# Altium schematic symbol library R_1206.SchLib: 1 symbol
Pins are listed as number, name and electrical type; pins without a type are passive.

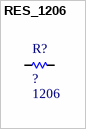
[diagram p0: symbol RES_1206]

## RES_1206
designator R?, comment ?  Package: 1206
200V Thick Film Resistors 1206 Chip Resistor - Surface Mount ROHS; Manufacturer: *; Manufacturer Part: *; Value: ?; LCSC: *; ComponentLink1Description: Datasheet; ComponentLink1URL: https://www.mouser.vn/datasheet/2/447/PYu_RT_1_to_0_01_RoHS_L_12-3003070.pdf
footprint R1206
pins: 1, 2